# EAGLE library part AT25QF641B-SHB-T (library milliLearn-ice40)
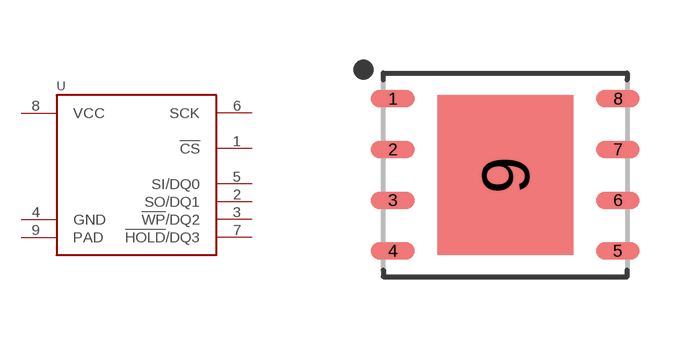
[diagram p11: symbol with the pads of AT25QF641B-SHB-T; footprint AT25QF641B-SHB-T]

Designator prefix U

## AT25QF641B-SHB-T  [AT25QF641B-SHB-T]
1  !CS
2  SO/DQ1
3  !WP!/DQ2
4  GND
5  SI/DQ0
6  SCK
7  !HOLD!/DQ3
8  VCC
9  PAD

## Footprint AT25QF641B-SHB-T (pad centres in mm)
8-SON (DFN), 1.27 mm pitch, 5.00 X 6.00 X 0.55 mm body, 4.00 X 3.40 mm thermal pad 8-pin SON (DFN) package with 1.27 mm pitch with body size 5.00 X 6.00 X 0.55 mm and thermal pad size 4.00 X 3.40 mm
smd 1.099 x 0.442: 1 -2.815,1.905; 2 -2.815,0.635; 3 -2.815,-0.635; 4 -2.815,-1.905; 5 2.815,-1.905; 6 2.815,-0.635; 7 2.815,0.635; 8 2.815,1.905
smd 3.4 x 4: 9 0,0